# EAGLE library part COPERNICUS-DIP (library Jim_RF_Retired)
Copernicus II dip module, SKU GPS-10923
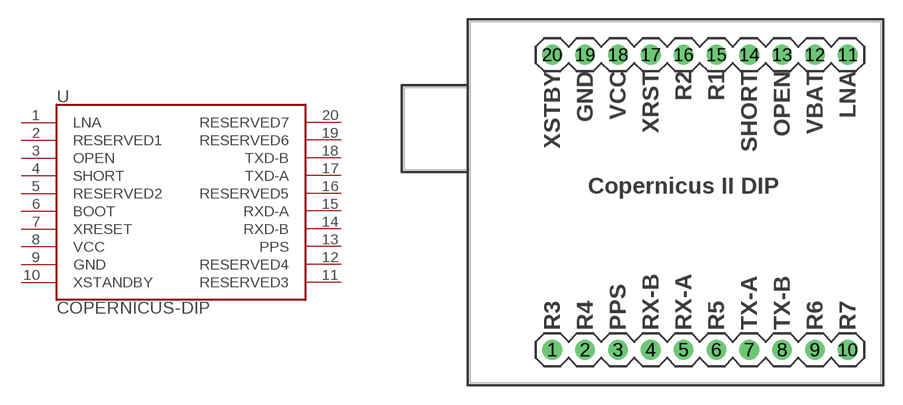
[diagram p38: symbol with the pads of COPERNICUS-DIP; footprint COPERNICUS-DIP]

Designator prefix -

## COPERNICUS-DIPPTH (SF_ID: 11858)  [COPERNICUS-DIP]
1  LNA
2  RESERVED1
3  OPEN
4  SHORT
5  RESERVED2
6  BOOT
7  XRESET
8  VCC
9  GND
10  XSTANDBY
11  RESERVED3
12  RESERVED4
13  PPS
14  RXD-B
15  RXD-A
16  RESERVED5
17  TXD-A
18  TXD-B
19  RESERVED6
20  RESERVED7

## Footprint COPERNICUS-DIP (pad centres in mm)
SparkFun Copernicus II DIP Board Pin layout for the SparkFun Copernicus II DIP GPS Module (GPS-11858) Product Link <https://www.sparkfun.com/products/11858>
drill 1.016: 1 6.35,2.54; 2 8.89,2.54; 3 11.43,2.54; 4 13.97,2.54; 5 16.51,2.54; 6 19.05,2.54; 7 21.59,2.54; 8 24.13,2.54; 9 26.67,2.54; 10 29.21,2.54; 11 29.21,25.4; 12 26.67,25.4; 13 24.13,25.4; 14 21.59,25.4; 15 19.05,25.4; 16 16.51,25.4; 17 13.97,25.4; 18 11.43,25.4; 19 8.89,25.4; 20 6.35,25.4